# Altium footprint library Diode.PcbLib: 37 footprints (part 3 of 3)
Each footprint in its own frame and in the unit in brackets; x right, y up, seen from the top. Pads: shape width x height; smd on the part's side, far side on the other; paste and mask are expansions set on the pad; w line width, h text height; cw(c..) or ccw(c..) is an arc to the next point about the centre after c.
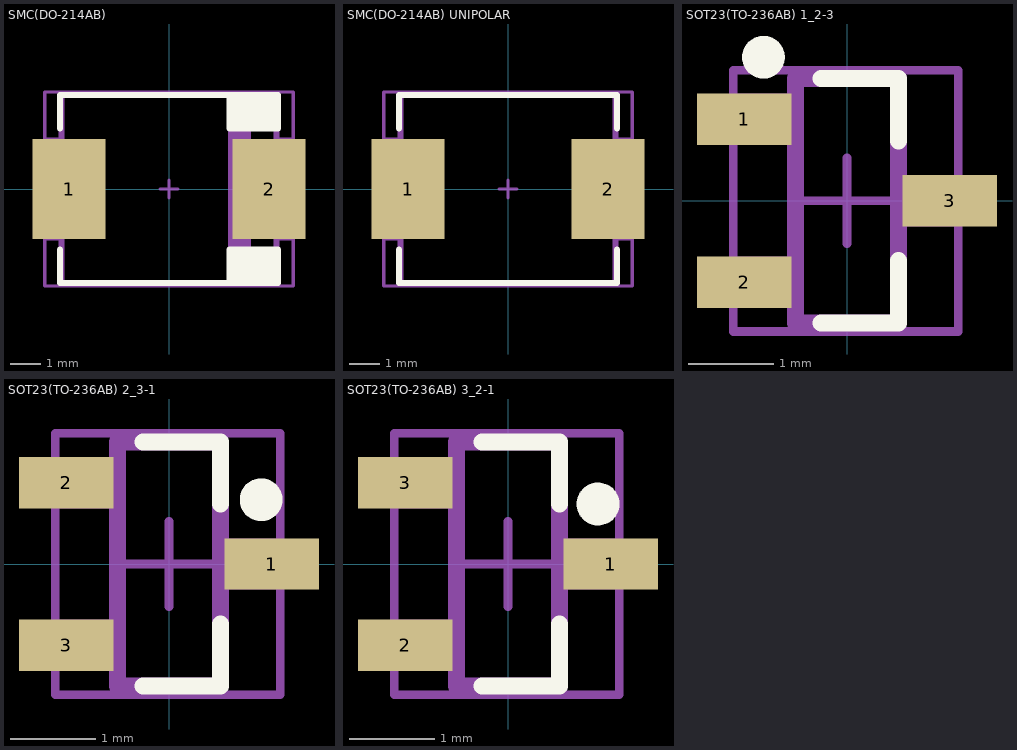
[diagram p2: the footprints below, top view; thin cyan lines are the x and y axes]

## SMC(DO-214AB) [mm]
pads (2):
  rect 2.4x3.3 smd: 1(-3.3,0) 2(3.3,0)
Top Overlay:
  rectangle: 2,2 3.6,3.1
  rectangle: 2,-3.1 3.6,-2
  lines w0.2: -3.6,-2 -3.6,-3.1 3.6,-3.1 3.6,-2 2,-2 2,-3.1 ; -3.6,2 -3.6,3.1 3.6,3.1 3.6,2 2,2 2,3.1
Top Assembly:
  region: 2.075,-3.1 2.525,-3.1 2.525,3.1 2.075,3.1
  lines w0.2: -3.55,-1.6 -4.05,-1.6 -4.05,1.6 -3.55,1.6 ; 2.05,-3.1 2.05,3.1 ; 2.6,-3.1 2.6,3.1 ; 3.55,-1.6 4.05,-1.6 4.05,1.6 3.55,1.6 ; -3.55,-3.1 -3.55,3.1 3.55,3.1 3.55,-3.1 -3.55,-3.1
  text "'.Designator'" at -1.2,-0.3 h1
  text "+" at -3.2,-0.6 h2
Area:
  lines w0.1: -0.3,0 0.3,0 ; 0,-0.3 0,0.3 ; -4.1,-3.2 -4.1,3.2 4.1,3.2 4.1,-3.2 -4.1,-3.2
3D body "SMC (DO-214AB) Diode.step": height 2.67, standoff 0.03, extent -4.064,-3.15 4.064,3.15

## SMC(DO-214AB) UNIPOLAR [mm]
pads (2):
  rect 2.4x3.3 smd: 1(-3.3,0) 2(3.3,0)
Top Overlay:
  lines w0.2: -3.6,-2 -3.6,-3.1 3.6,-3.1 3.6,-2 ; -3.6,2 -3.6,3.1 3.6,3.1 3.6,2
Top Assembly:
  lines w0.2: -3.55,-1.6 -4.05,-1.6 -4.05,1.6 -3.55,1.6 ; 3.55,-1.6 4.05,-1.6 4.05,1.6 3.55,1.6 ; -3.55,-3.1 -3.55,3.1 3.55,3.1 3.55,-3.1 -3.55,-3.1
  text "'.Designator'" at -1.2,-0.3 h1
Area:
  lines w0.1: -0.3,0 0.3,0 ; 0,-0.3 0,0.3 ; -4.1,-3.2 -4.1,3.2 4.1,3.2 4.1,-3.2 -4.1,-3.2
3D body "SMC (DO-214AB) Diode.step": height 2.67, standoff 0.03, extent -4.064,-3.15 4.064,3.15

## SOT23(TO-236AB) 1_2-3 [mm]
height 1.1
pads (3):
  rect 1.1x0.6 smd: 1(-1.2,0.95) 2(-1.2,-0.95) 3(1.2,0)
Top Overlay:
  circle w0.25: c-0.975,1.675 r0.125
  lines w0.2: -0.3,-1.425 0.6,-1.425 0.6,-0.7 ; -0.3,1.425 0.6,1.425 0.6,0.7
Top Assembly:
  lines w0.2: -0.6,-1.15 -1.3,-1.15 -1.3,-0.75 -0.6,-0.75 ; -0.6,0.75 -1.3,0.75 -1.3,1.15 -0.6,1.15 ; 0.6,-0.2 1.3,-0.2 1.3,0.2 0.6,0.2 ; -0.6,-1.425 -0.6,1.425 0.6,1.425 0.6,-1.425 -0.6,-1.425
  text "'.Designator'" at -0.325,0.925 h1
Area:
  lines w0.1: -0.5,0 0.5,0 ; 0,-0.5 0,0.5 ; -1.325,-1.525 -1.325,1.525 1.3,1.525 1.3,-1.525 -1.325,-1.525
3D body "SOT23(TO-236AB).step": height 1.09, standoff 0, extent -1.25,-1.525 1.25,1.475

## SOT23(TO-236AB) 2_3-1 [mm]
height 1.1
pads (3):
  rect 1.1x0.6 smd: 1(1.2,0) 2(-1.2,0.95) 3(-1.2,-0.95)
Top Overlay:
  circle w0.25: c1.075,0.75 r0.125
  lines w0.2: -0.3,-1.425 0.6,-1.425 0.6,-0.7 ; -0.3,1.425 0.6,1.425 0.6,0.7
Top Assembly:
  lines w0.2: -0.6,-1.15 -1.3,-1.15 -1.3,-0.75 -0.6,-0.75 ; -0.6,0.75 -1.3,0.75 -1.3,1.15 -0.6,1.15 ; 0.6,-0.2 1.3,-0.2 1.3,0.2 0.6,0.2 ; -0.6,-1.425 -0.6,1.425 0.6,1.425 0.6,-1.425 -0.6,-1.425
  text "'.Designator'" at -0.325,0.95 h1
Area:
  lines w0.1: -0.5,0 0.5,0 ; 0,-0.5 0,0.5 ; -1.325,-1.525 -1.325,1.525 1.3,1.525 1.3,-1.525 -1.325,-1.525
3D body "SOT23(TO-236AB).step": height 1.09, standoff 0, extent -1.25,-1.525 1.25,1.475

## SOT23(TO-236AB) 3_2-1 [mm]
height 1.1
pads (3):
  rect 1.1x0.6 smd: 1(1.2,0) 2(-1.2,-0.95) 3(-1.2,0.95)
Top Overlay:
  circle w0.25: c1.05,0.7 r0.125
  lines w0.2: -0.3,-1.425 0.6,-1.425 0.6,-0.7 ; -0.3,1.425 0.6,1.425 0.6,0.7
Top Assembly:
  lines w0.2: -0.6,-1.15 -1.3,-1.15 -1.3,-0.75 -0.6,-0.75 ; -0.6,0.75 -1.3,0.75 -1.3,1.15 -0.6,1.15 ; 0.6,-0.2 1.3,-0.2 1.3,0.2 0.6,0.2 ; -0.6,-1.425 0.6,-1.425 0.6,1.425 -0.6,1.425 -0.6,-1.425
  text "'.Designator'" at -0.325,0.95 h1
Area:
  lines w0.1: -0.5,0 0.5,0 ; 0,-0.5 0,0.5 ; -1.325,-1.525 1.3,-1.525 1.3,1.525 -1.325,1.525 -1.325,-1.525
3D body "SOT23(TO-236AB).step": height 1.09, standoff 0, extent -1.25,-1.525 1.25,1.475